# Altium footprint library L135-G525003500000.PcbLib: 3 footprints
Each footprint in its own frame and in the unit in brackets; x right, y up, seen from the top. Pads: shape width x height; smd on the part's side, far side on the other; paste and mask are expansions set on the pad; w line width, h text height; cw(c..) or ccw(c..) is an arc to the next point about the centre after c.
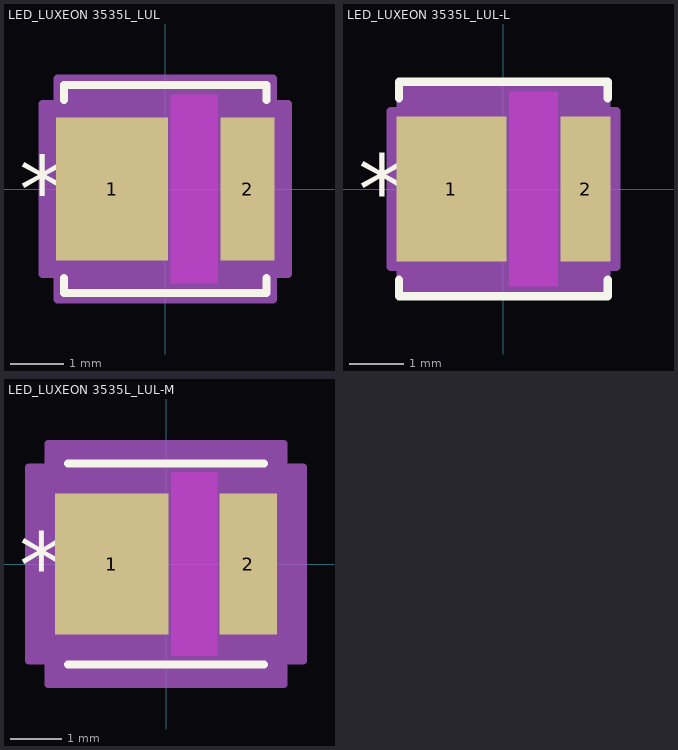
[diagram p0: the footprints below, top view; thin cyan lines are the x and y axes]

## LED_LUXEON 3535L_LUL [mil]
pads (2):
  rect 83x106 smd paste+0 mask+0: 1(-39.5,0)
  rect 40x106 smd paste+0 mask+0: 2(61,0)
Top Layer keep-out:
  region: 4,-70 4,70 39,70 39,-70
Top Overlay:
  lines w6: -75,-66.1 -75,-77 75,-77 75,-66.1 ; -75,66.1 -75,77 75,77 75,66.1
  text "*" at -108.5,-25 h50
Keep-Out Layer:
  region: 4,-70 4,70 39,70 39,-70
Mechanical 13:
  lines w1: -70,-36 -34,-72 ; -70,36 -34,72 ; -73,-53 -73,53 -70,53 -70,-53 -73,-53 ; -70,-72 70,-72 70,72 -70,72 -70,-72 ; 70,-53 70,53 73,53 73,-53 70,-53
  text "*" at -72.5,-25 h50
Mechanical 15:
  region: -80,-63 -91,-63 -91,63 -80,63 -80,82 80,82 80,63 91,63 91,-63 80,-63 80,-82 -80,-82
  lines w6: -91,-63 -91,63 -80,63 -80,82 80,82 80,63 91,63 91,-63 80,-63 80,-82 -80,-82 -80,-63 -91,-63
3D body "LED_LUXEON3535L_LUL.step": height 32.09, standoff 0, extent -72.99,-72.01 72.99,72.01

## LED_LUXEON 3535L_LUL-L [mil]
pads (2):
  rect 79x104 smd paste+0 mask+0: 1(-37.5,0)
  rect 36x104 smd paste+0 mask+0: 2(59,0)
Top Layer keep-out:
  region: 4,-70 4,70 39,70 39,-70
Top Overlay:
  lines w6: -75,-65.1 -75,-77 75,-77 75,-65.1 ; -75,65.1 -75,77 75,77 75,65.1
  text "*" at -104.5,-25 h50
Keep-Out Layer:
  region: 4,-70 4,70 39,70 39,-70
Mechanical 13:
  lines w1: -70,-36 -34,-72 ; -70,36 -34,72 ; -73,-53 -73,53 -70,53 -70,-53 -73,-53 ; -70,-72 70,-72 70,72 -70,72 -70,-72 ; 70,-53 70,53 73,53 73,-53 70,-53
  text "*" at -72.5,-25 h50
Mechanical 15:
  region: -74,-56 -81,-56 -81,56 -74,56 -74,76 74,76 74,56 81,56 81,-56 74,-56 74,-76 -74,-76
  lines w6: -81,-56 -81,56 -74,56 -74,76 74,76 74,56 81,56 81,-56 74,-56 74,-76 -74,-76 -74,-56 -81,-56
3D body: height 10, standoff 0, extent 0,0 10,10

## LED_LUXEON 3535L_LUL-M [mil]
pads (2):
  rect 87x108 smd paste+0 mask+0: 1(-41.5,0)
  rect 44x108 smd paste+0 mask+0: 2(63,0)
Top Layer keep-out:
  region: 4,-70 4,70 39,70 39,-70
Top Overlay:
  lines w6: -75,-77 75,-77 ; -75,77 75,77
  text "*" at -112.5,-25 h50
Keep-Out Layer:
  region: 4,-70 4,70 39,70 39,-70
Mechanical 13:
  lines w1: -70,-36 -34,-72 ; -70,36 -34,72 ; -73,-53 -73,53 -70,53 -70,-53 -73,-53 ; -70,-72 70,-72 70,72 -70,72 -70,-72 ; 70,-53 70,53 73,53 73,-53 70,-53
  text "*" at -72.5,-25 h50
Mechanical 15:
  region: -90,-74 -105,-74 -105,74 -90,74 -90,92 90,92 90,74 105,74 105,-74 90,-74 90,-92 -90,-92
  lines w6: -105,-74 -105,74 -90,74 -90,92 90,92 90,74 105,74 105,-74 90,-74 90,-92 -90,-92 -90,-74 -105,-74
3D body: height 10, standoff 0, extent 0,0 10,10